# Altium footprint library SOIC127P1000X220-6N.PcbLib: 1 footprints
Each footprint in its own frame and in the unit in brackets; x right, y up, seen from the top. Pads: shape width x height; smd on the part's side, far side on the other; paste and mask are expansions set on the pad; w line width, h text height; cw(c..) or ccw(c..) is an arc to the next point about the centre after c.
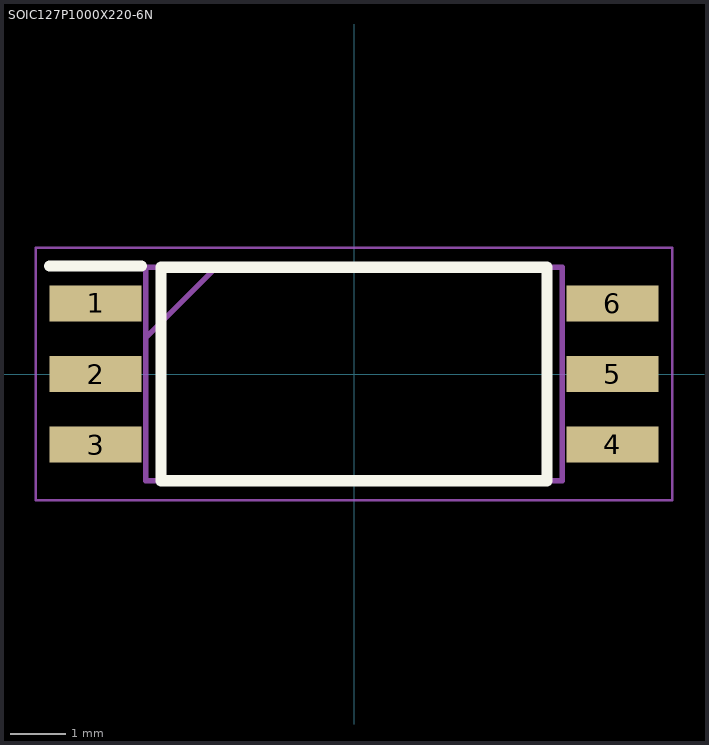
[diagram p0: the footprint, top view; thin cyan lines are the x and y axes]

## SOIC127P1000X220-6N [mm]
pads (6):
  rect 1.65x0.65 smd: 1(-4.65,1.27) 2(-4.65,0) 3(-4.65,-1.27) 4(4.65,-1.27) 5(4.65,0) 6(4.65,1.27)
Top Overlay:
  lines w0.2: -5.475,1.945 -3.825,1.945 ; -3.475,-1.92 3.475,-1.92 3.475,1.92 -3.475,1.92 -3.475,-1.92
Mechanical 15:
  lines w0.1: -3.75,0.65 -2.48,1.92 ; -3.75,-1.92 3.75,-1.92 3.75,1.92 -3.75,1.92 -3.75,-1.92
Mechanical 20:
  lines w0.05: -5.725,-2.27 5.725,-2.27 5.725,2.27 -5.725,2.27 -5.725,-2.27